# Altium schematic symbol library btretro_schlib.SchLib: 68 symbols (part 2 of 3)
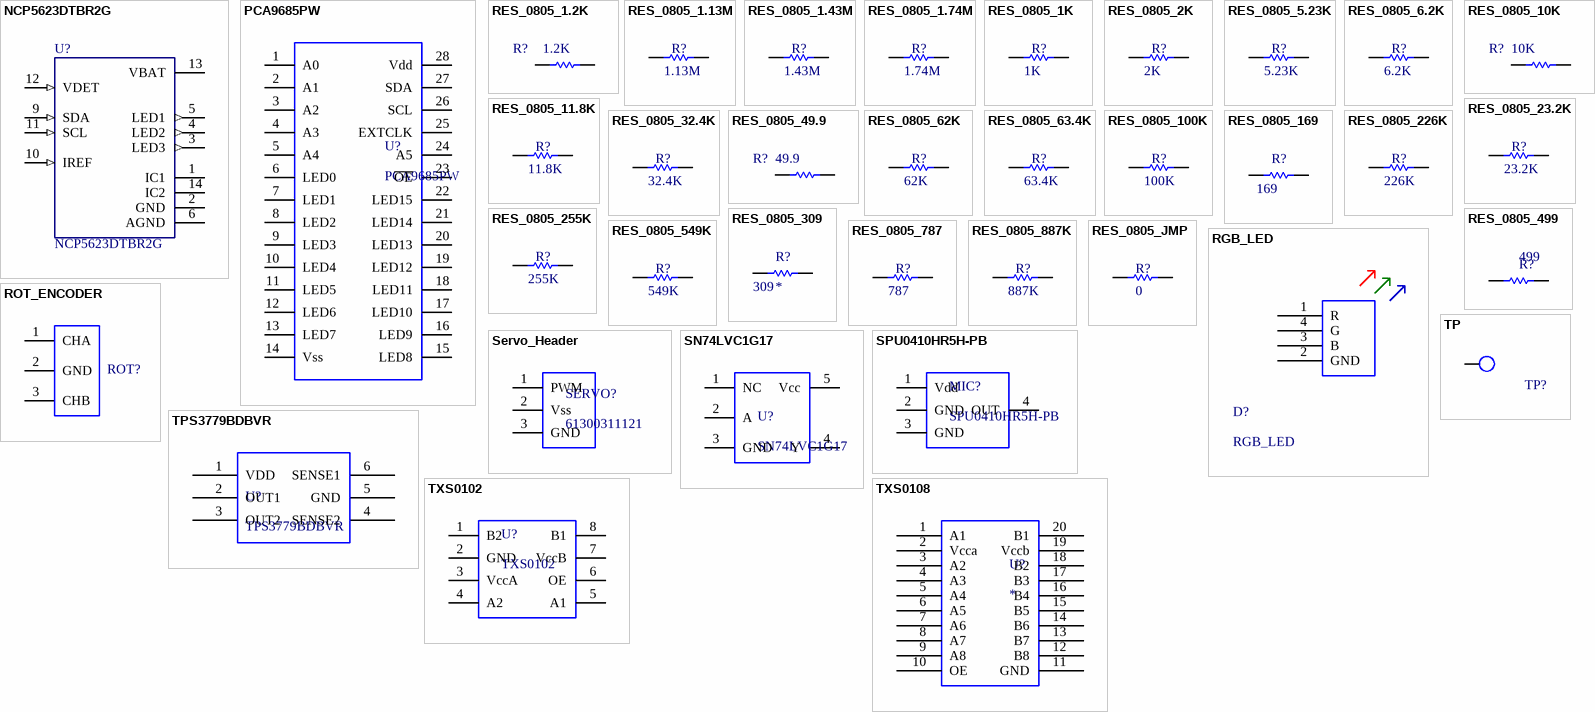
[diagram p2: symbols NCP5623DTBR2G to TXS0108]

## RES_0805_1.43M
designator R?, comment RES_1.43M  (value not drawn)
RES SMD 1.43M OHM 1% 1/8W 0805; Manufacturer: Yageo; Manufacturer Part Number: RC0805FR-071M43L; Voltage Rating: 150V; Resistance: 1.43MR; Power Rating: 125mW; Temperature Coefficient: 100ppm/°C; Supplier 1: Digi-Key; Supplier Part Number 1: 311-1.43MCRCT-ND; Stock 1: 27474; Pricing 1: 1=0.1, 10=0.023, 100=0.0095, 1000=0.0043, 2500=0.0037 (USD); Case/Package: 0805; Case Code (Metric): 2012; Case Code (Imperial): 0805; Contact Plating: Tin,Matte; Min Operating Temperature: -55°C; Max Operating Temperature: 155°C; Package Quantity: 1; Tolerance: 1%; Packaging: Tape and Reel; Composition: Thick Film; Number of Terminations: 2; Termination: SMD/SMT; Military Standard: Not; Max Power Dissipation: 125mW; Voltage Rating (DC): 150V; Length: 2mm; Height: 0.024inch; Width: 0.049inch; Depth: 1.25mm; Radiation Hardening: No; Lead Free: Lead Free; ComponentLink1URL: https://datasheet.ciiva.com/2554/pyu-r-int-thick-7-2554432.pdf; ComponentLink1Description: https://datasheet.ciiva.com/2554/pyu-r-int-thick-7-2554432.pdf; ComponentLink2URL: https://datasheet.ciiva.com/12575/rc0805-257173-12575317.pdf; ComponentLink2Description: https://datasheet.ciiva.com/12575/rc0805-257173-12575317.pdf; ComponentLink3URL: https://datasheet.ciiva.com/2554/pyu-r-int-thick-7-2554430.pdf; ComponentLink3Description: https://datasheet.ciiva.com/2554/pyu-r-int-thick-7-2554430.pdf; ComponentLink4URL: https://datasheet.ciiva.com/2554/pyu-r-int-thick-7-2554431.pdf; ComponentLink4Description: https://datasheet.ciiva.com/2554/pyu-r-int-thick-7-2554431.pdf
footprint RES0805
pins: 1, 2
text: 1.43M

## RES_0805_1.74M
designator R?  (value not drawn)
RES SMD 1.74M OHM 1% 1/8W 0805; Manufacturer: Yageo; Manufacturer Part Number: RC0805FR-071M74L; Resistance: 1.74MR; Power Rating: 125mW; Voltage Rating: 150V; Temperature Coefficient: 100ppm/°C; Supplier 1: Digi-Key; Supplier Part Number 1: 311-1.74MCRCT-ND; Stock 1: 24001; Pricing 1: 1=0.1, 10=0.023, 100=0.0095, 1000=0.0043, 2500=0.0037 (USD); Case/Package: 0805; Case Code (Imperial): 0805; Case Code (Metric): 2012; Contact Plating: Tin,Matte; Min Operating Temperature: -55°C; Max Operating Temperature: 155°C; Tolerance: 1%; Packaging: Tape and Reel; Package Quantity: 1; Termination: SMD/SMT; Composition: Thick Film; Number of Terminations: 2; Max Power Dissipation: 125mW; Voltage Rating (DC): 150V; Length: 0.079inch; Height: 0.024inch; Width: 1.25mm; Radiation Hardening: No; Lead Free: Lead Free; ComponentLink1URL: https://datasheet.ciiva.com/12575/rc0805-257173-12575526.pdf; ComponentLink1Description: https://datasheet.ciiva.com/12575/rc0805-257173-12575526.pdf; ComponentLink2URL: https://datasheet.ciiva.com/2459/pyu-r-int-thick-7-2459082.pdf; ComponentLink2Description: https://datasheet.ciiva.com/2459/pyu-r-int-thick-7-2459082.pdf; ComponentLink3URL: https://datasheet.ciiva.com/2459/pyu-r-int-thick-7-2459083.pdf; ComponentLink3Description: https://datasheet.ciiva.com/2459/pyu-r-int-thick-7-2459083.pdf; ComponentLink4URL: https://datasheet.ciiva.com/2459/pyu-r-int-thick-7-2459084.pdf; ComponentLink4Description: https://datasheet.ciiva.com/2459/pyu-r-int-thick-7-2459084.pdf
footprint RES0805
pins: 1, 2
text: 1.74M

## RES_0805_1K
designator R?  (value not drawn)
RES SMD 1K OHM 1% 1/8W 0805; Manufacturer: Yageo; Manufacturer Part Number: RC0805FR-071KL; Resistance: 1KR; Temperature Coefficient: 100ppm/°C; Voltage Rating (DC): 150V; Power Rating: 125mW; Supplier 1: Digi-Key; Supplier Part Number 1: 311-1.00KCRCT-ND; Stock 1: 6122451; Pricing 1: 1=0.1, 10=0.022, 100=0.0088, 1000=0.004, 2500=0.0034 (USD); Case/Package: 0805; Number of Pins: 2; Case Code (Metric): 2012; Case Code (Imperial): 0805; Min Operating Temperature: -55°C; Max Operating Temperature: 155°C; Tolerance: 1%; Packaging: Tape and Reel; Composition: Thick Film; Package Quantity: 1; Voltage Rating: 150V; Number of Terminations: 2; Termination: SMD/SMT; Military Standard: Not; Max Power Dissipation: 125mW; Length: 0.079inch; Height: 0.024inch; Width: 0.049inch; Depth: 1.25mm; REACH SVHC: Unknown; Lead Free: Lead Free; ComponentLink1URL: https://datasheet.ciiva.com/2456/pyu-r-int-thick-7-2456976.pdf; ComponentLink1Description: https://datasheet.ciiva.com/2456/pyu-r-int-thick-7-2456976.pdf; ComponentLink2URL: https://datasheet.ciiva.com/2456/pyu-r-int-thick-7-2456977.pdf; ComponentLink2Description: https://datasheet.ciiva.com/2456/pyu-r-int-thick-7-2456977.pdf; ComponentLink3URL: https://datasheet.ciiva.com/11819/0900766b8106beab-11819814.pdf; ComponentLink3Description: https://datasheet.ciiva.com/11819/0900766b8106beab-11819814.pdf; ComponentLink4URL: https://datasheet.ciiva.com/7941/1686128-7941719.pdf; ComponentLink4Description: https://datasheet.ciiva.com/7941/1686128-7941719.pdf; ComponentLink5URL: https://datasheet.ciiva.com/16850/rc0805-16850409.pdf; ComponentLink5Description: https://datasheet.ciiva.com/16850/rc0805-16850409.pdf; ComponentLink6URL: https://datasheet.ciiva.com/46385/444164-46385020.pdf; ComponentLink6Description: https://datasheet.ciiva.com/46385/444164-46385020.pdf; ComponentLink7URL: https://datasheet.ciiva.com/2456/pyu-r-int-thick-7-2456975.pdf; ComponentLink7Description: https://datasheet.ciiva.com/2456/pyu-r-int-thick-7-2456975.pdf
footprint RES0805
pins: 1, 2
text: 1K

## RES_0805_2K
designator R?  (value not drawn)
RES SMD 2K OHM 5% 1/8W 0805; Manufacturer: Yageo; Manufacturer Part Number: RC0805JR-072KL; Resistance: 2KR; Power Rating: 125mW; Voltage Rating: 150V; Temperature Coefficient: 100ppm/°C; Supplier 1: Digi-Key; Supplier Part Number 1: 311-2.0KARCT-ND; Stock 1: 297667; Pricing 1: 1=0.1, 10=0.016, 25=0.0116, 50=0.009, 100=0.0066, 250=0.005, 500=0.004, 1000=0.003 (USD); Case/Package: 0805; Number of Pins: 2; Case Code (Metric): 2012; Case Code (Imperial): 0805; Contact Plating: Tin,Lead,Matte; Min Operating Temperature: -55°C; Max Operating Temperature: 155°C; Tolerance: 5%; Packaging: Tape and Reel; Package Quantity: 1; Composition: Thick Film; Number of Terminations: 2; Termination: SMD/SMT; Military Standard: Not; Max Power Dissipation: 125mW; Voltage Rating (DC): 150V; Length: 2mm; Height: 0.024inch; Width: 0.049inch; Depth: 1.25mm; Radiation Hardening: No; REACH SVHC: No SVHC; Lead Free: Lead Free; ComponentLink1URL: https://datasheet.ciiva.com/46395/444164-46395141.pdf; ComponentLink1Description: https://datasheet.ciiva.com/46395/444164-46395141.pdf; ComponentLink2URL: https://datasheet.ciiva.com/2456/pyu-r-int-thick-7-2456104.pdf; ComponentLink2Description: https://datasheet.ciiva.com/2456/pyu-r-int-thick-7-2456104.pdf; ComponentLink3URL: https://datasheet.ciiva.com/2456/pyu-r-int-thick-7-2456105.pdf; ComponentLink3Description: https://datasheet.ciiva.com/2456/pyu-r-int-thick-7-2456105.pdf; ComponentLink4URL: https://datasheet.ciiva.com/2456/pyu-r-int-thick-7-2456106.pdf; ComponentLink4Description: https://datasheet.ciiva.com/2456/pyu-r-int-thick-7-2456106.pdf; ComponentLink5URL: https://datasheet.ciiva.com/12666/rc0805-12666941.pdf; ComponentLink5Description: https://datasheet.ciiva.com/12666/rc0805-12666941.pdf
footprint RES0805
pins: 1, 2
text: 2K

## RES_0805_5.23K
designator R?, comment RES_5.23K  (value not drawn)
Thick Film Resistors 5.23K OHM 1%; Manufacturer: Yageo; Manufacturer Part Number: RC0805FR-075K23L; Resistance: 5.23KR; Power Rating: 125mW; Voltage Rating: 150V; Temperature Coefficient: 100ppm/°C; Supplier 1: Digi-Key; Supplier Part Number 1: 311-5.23KCRCT-ND; Stock 1: 101854; Pricing 1: 1=0.1, 10=0.022, 100=0.0088, 1000=0.004, 2500=0.0034 (USD); Case/Package: 0805; Weight: 0.000194oz; Case Code (Imperial): 0805; Case Code (Metric): 2012; Contact Plating: Tin,Matte; Min Operating Temperature: -55°C; Max Operating Temperature: 155°C; Tolerance: 1%; Packaging: Tape and Reel; Termination: SMD/SMT; Composition: Thick Film; Military Standard: Not; Voltage Rating (DC): 150V; Length: 2mm; Height: 0.5mm; Width: 1.25mm; Depth: 1.25mm; Radiation Hardening: No; Lead Free: Lead Free; ComponentLink1URL: https://datasheet.ciiva.com/12577/rc0805-12577289.pdf; ComponentLink1Description: https://datasheet.ciiva.com/12577/rc0805-12577289.pdf
footprint RES0805
pins: 1, 2
text: 5.23K

## RES_0805_6.2K
designator R?, comment RES_6.2K  (value not drawn)
Yageo RC0805 Series Thick Film Surface Mount Resistor 0805 Case 6.2k 1% 0.125W 100ppm/C; Manufacturer Part Number: RC0805FR-076K2L; Power Rating: 125mW; Resistance: 6.2KR; Temperature Coefficient: 100ppm/°C; Voltage Rating (DC): 150V; Supplier 1: Digi-Key; Supplier Part Number 1: 311-6.20KCRCT-ND; Manufacturer: Yageo; Stock 1: 195580; Pricing 1: 1=0.1, 10=0.022, 100=0.0088, 1000=0.004, 2500=0.0034 (USD); Case/Package: 0805; Case Code (Imperial): 0805; Case Code (Metric): 2012; Min Operating Temperature: -55°C; Max Operating Temperature: 155°C; Tolerance: 1%; Packaging: Tape and Reel; Package Quantity: 5000; Voltage Rating: 150V; Termination: SMD/SMT; Military Standard: Not; Composition: Thick Film; Length: 2mm; Height: 0.5mm; Width: 1.25mm; Depth: 1.25mm; Lead Free: Lead Free; ComponentLink1URL: https://datasheet.ciiva.com/11809/0900766b8106beab-11809424.pdf; ComponentLink1Description: https://datasheet.ciiva.com/11809/0900766b8106beab-11809424.pdf; ComponentLink2URL: https://datasheet.ciiva.com/16792/rc0805-16792360.pdf; ComponentLink2Description: https://datasheet.ciiva.com/16792/rc0805-16792360.pdf
footprint RES0805
pins: 1, 2
text: 6.2K

## RES_0805_10K
designator R?  Resistance: 10K  (hidden comment: *)
RES, THICK FILM, 10K, 5%, 0.125W, 0805; Manufacturer: Yageo; Manufacturer Part Number: RC0805JR-0710KL; Power Rating: 125mW; Voltage Rating: 150V; Temperature Coefficient: 100ppm/°C; Supplier 1: Digi-Key; Stock 1: 1285290; Pricing 1: 1=0.1, 10=0.019, 100=0.0076, 1000=0.0034, 2500=0.003 (USD); Case/Package: 0805; Case Code (Imperial): 0805; Case Code (Metric): 2012; Contact Plating: Tin,Matte; Min Operating Temperature: -55°C; Max Operating Temperature: 155°C; Tolerance: 5%; Packaging: Tape and Reel; Termination: SMD/SMT; Composition: Thick Film; Military Standard: Not; Length: 2mm; Height: 0.5mm; Depth: 1.25mm; Width: 1.25mm; Radiation Hardening: No; REACH SVHC: Unknown; Lead Free: Lead Free; ComponentLink1URL: https://datasheet.ciiva.com/7983/444164-7983765.pdf; ComponentLink1Description: https://datasheet.ciiva.com/7983/444164-7983765.pdf; ComponentLink2URL: https://datasheet.ciiva.com/7941/444164-7941870.pdf; ComponentLink2Description: https://datasheet.ciiva.com/7941/444164-7941870.pdf; ComponentLink3URL: https://datasheet.ciiva.com/7941/444164-7941871.pdf; ComponentLink3Description: https://datasheet.ciiva.com/7941/444164-7941871.pdf; Supplier Part Number 1: 311-10KARCT-ND
footprint RES0805
pins: 1, 2

## RES_0805_11.8K
designator R?  (value not drawn)
RES SMD 11.8K OHM 1% 1/8W 0805; Manufacturer: Yageo; Manufacturer Part Number: RC0805FR-0711K8L; Resistance: 11.8KR; Temperature Coefficient: 100ppm/°C; Voltage Rating (DC): 150V; Power Rating: 125mW; Supplier 1: Digi-Key; Supplier Part Number 1: 311-11.8KCRCT-ND; Stock 1: 69614; Pricing 1: 1=0.1, 10=0.022, 100=0.0088, 1000=0.004, 2500=0.0034 (USD); Case/Package: 0805; Contact Plating: Tin,Lead,Matte; Case Code (Metric): 2012; Case Code (Imperial): 0805; Min Operating Temperature: -55°C; Max Operating Temperature: 155°C; Tolerance: 1%; Packaging: Tape and Reel; Composition: Thick Film; Voltage Rating: 150V; Termination: SMD/SMT; Military Standard: Not; Package Quantity: 1; Number of Terminations: 2; Max Power Dissipation: 125mW; Length: 2mm; Height: 0.024inch; Width: 0.049inch; Depth: 1.25mm; Radiation Hardening: No; Lead Free: Lead Free; ComponentLink1URL: https://datasheet.ciiva.com/15189/getdatasheetpartid-498796-15189893.pdf; ComponentLink1Description: https://datasheet.ciiva.com/15189/getdatasheetpartid-498796-15189893.pdf; ComponentLink2URL: https://datasheet.ciiva.com/2509/pyu-r-int-thick-7-2509453.pdf; ComponentLink2Description: https://datasheet.ciiva.com/2509/pyu-r-int-thick-7-2509453.pdf; ComponentLink3URL: https://datasheet.ciiva.com/2509/pyu-r-int-thick-7-2509454.pdf; ComponentLink3Description: https://datasheet.ciiva.com/2509/pyu-r-int-thick-7-2509454.pdf; ComponentLink4URL: https://datasheet.ciiva.com/2509/pyu-r-int-thick-7-2509455.pdf; ComponentLink4Description: https://datasheet.ciiva.com/2509/pyu-r-int-thick-7-2509455.pdf
footprint RES0805
pins: 1, 2
text: 11.8K

## RES_0805_23.2K
designator R?  (value not drawn)
RESISTOR, THICK FILM, 23.2KOHM, 125mW, ± 1%; Manufacturer: Panasonic ECG; Manufacturer Part Number: ERJ-6ENF2322V; Resistance: 23.2KR; Voltage Rating: 150V; Temperature Coefficient: 100ppm/°C; Supplier 1: Digi-Key; Supplier Part Number 1: P23.2KCCT-ND; Stock 1: 76814; Pricing 1: 1=0.1, 10=0.041, 100=0.0167, 1000=0.0075, 2500=0.0065 (USD); Mount: Surface Mount; Case/Package: 0805; Case Code (Metric): 2012; Case Code (Imperial): 0805; Contact Plating: Tin; Min Operating Temperature: -55°C; Max Operating Temperature: 155°C; Tolerance: 1%; Power Rating: 125mW; Packaging: Tape and Reel; Package Quantity: 1; Composition: Thick Film; Number of Terminations: 2; Termination: Solder; Military Standard: Not; Max Power Dissipation: 125mW; Voltage Rating (DC): 150V; Length: 2mm; Height: 0.6mm; Width: 0.049inch; Depth: 1.25mm; REACH SVHC: Unknown; Lead Free: Lead Free; ComponentLink1URL: https://datasheet.ciiva.com/16766/70260748-16766008.pdf; ComponentLink1Description: https://datasheet.ciiva.com/16766/70260748-16766008.pdf; ComponentLink2URL: https://datasheet.ciiva.com/16770/70260748-16770232.pdf; ComponentLink2Description: https://datasheet.ciiva.com/16770/70260748-16770232.pdf; ComponentLink3URL: https://datasheet.ciiva.com/24026/aoa0000ce2-24026235.pdf; ComponentLink3Description: https://datasheet.ciiva.com/24026/aoa0000ce2-24026235.pdf; ComponentLink4URL: https://datasheet.ciiva.com/15829/aoa0000ce2-15829836.pdf; ComponentLink4Description: https://datasheet.ciiva.com/15829/aoa0000ce2-15829836.pdf; ComponentLink5URL: https://datasheet.ciiva.com/30086/aoa0000ce2-30086557.pdf; ComponentLink5Description: https://datasheet.ciiva.com/30086/aoa0000ce2-30086557.pdf; ComponentLink6URL: https://datasheet.ciiva.com/28548/1694929-28548334.pdf; ComponentLink6Description: https://datasheet.ciiva.com/28548/1694929-28548334.pdf; ComponentLink7URL: https://datasheet.ciiva.com/7870/aoa0000ce2-7870831.pdf; ComponentLink7Description: https://datasheet.ciiva.com/7870/aoa0000ce2-7870831.pdf
footprint RES0805
pins: 1, 2
text: 23.2K

## RES_0805_32.4K
designator R?  (value not drawn)
Res Thick Film 0805 32.4K Ohm 1% 0.125W(1/8W) ±100ppm/C Molded SMD Automotive Punched T/R; Manufacturer: Panasonic ECG; Manufacturer Part Number: ERJ-6ENF3242V; Voltage Rating: 150V; Resistance: 32.4KR; Power Rating: 125mW; Temperature Coefficient: 100ppm/°C; Supplier 1: Digi-Key; Supplier Part Number 1: P32.4KCCT-ND; Stock 1: 78637; Pricing 1: 1=0.1, 10=0.041, 100=0.0167, 1000=0.0075, 2500=0.0065 (USD); Mount: Surface Mount; Case/Package: 0805; Case Code (Metric): 2012; Case Code (Imperial): 0805; Contact Plating: Tin; Min Operating Temperature: -55°C; Max Operating Temperature: 155°C; Tolerance: 1%; Packaging: Tape and Reel; Package Quantity: 1; Composition: Thick Film; Number of Terminations: 2; Max Power Dissipation: 125mW; Voltage Rating (DC): 150V; Termination: SMD/SMT; Military Standard: Not; Length: 2mm; Height: 0.6mm; Width: 0.049inch; Depth: 1.25mm; Radiation Hardening: No; REACH SVHC: No SVHC; Lead Free: Lead Free; ComponentLink1URL: https://datasheet.ciiva.com/16775/70260748-16775558.pdf; ComponentLink1Description: https://datasheet.ciiva.com/16775/70260748-16775558.pdf; ComponentLink2URL: https://datasheet.ciiva.com/15158/getdatasheetpartid-247611-15158919.pdf; ComponentLink2Description: https://datasheet.ciiva.com/15158/getdatasheetpartid-247611-15158919.pdf; ComponentLink3URL: https://datasheet.ciiva.com/7870/aoa0000ce2-7870840.pdf; ComponentLink3Description: https://datasheet.ciiva.com/7870/aoa0000ce2-7870840.pdf; ComponentLink4URL: https://datasheet.ciiva.com/16761/70260748-16761144.pdf; ComponentLink4Description: https://datasheet.ciiva.com/16761/70260748-16761144.pdf; ComponentLink5URL: https://datasheet.ciiva.com/28545/1694929-28545435.pdf; ComponentLink5Description: https://datasheet.ciiva.com/28545/1694929-28545435.pdf; ComponentLink6URL: https://datasheet.ciiva.com/24069/aoa0000ce2-24069836.pdf; ComponentLink6Description: https://datasheet.ciiva.com/24069/aoa0000ce2-24069836.pdf; ComponentLink7URL: https://datasheet.ciiva.com/30163/aoa0000ce2-30163404.pdf; ComponentLink7Description: https://datasheet.ciiva.com/30163/aoa0000ce2-30163404.pdf
footprint RES0805
pins: 1, 2
text: 32.4K

## RES_0805_49.9
designator R?  Resistance: 49.9  (hidden comment: *)
RES SMD 49.9 OHM 1% 1/8W 0805; Manufacturer: Yageo; Manufacturer Part Number: RC0805FR-0749R9L; Power Rating: 125mW; Voltage Rating: 150V; Temperature Coefficient: 100ppm/°C; Supplier 1: Digi-Key; Stock 1: 531225; Pricing 1: 1=0.1, 10=0.022, 100=0.0088, 1000=0.004, 2500=0.0034 (USD); Mount: Surface Mount; Case/Package: 0805; Case Code (Metric): 2012; Case Code (Imperial): 0805; Min Operating Temperature: -55°C; Max Operating Temperature: 155°C; Package Quantity: 1; Tolerance: 1%; Packaging: Tape and Reel; Composition: Thick Film; Number of Terminations: 2; Termination: SMD/SMT; Military Standard: Not; Max Power Dissipation: 125mW; Voltage Rating (DC): 150V; Length: 2mm; Height: 0.024inch; Width: 0.049inch; Depth: 1.25mm; Lead Free: Lead Free; ComponentLink1URL: https://datasheet.ciiva.com/11808/0900766b8106beab-11808260.pdf; ComponentLink1Description: https://datasheet.ciiva.com/11808/0900766b8106beab-11808260.pdf; ComponentLink2URL: https://datasheet.ciiva.com/12667/rc0805-12667333.pdf; ComponentLink2Description: https://datasheet.ciiva.com/12667/rc0805-12667333.pdf; ComponentLink3URL: https://datasheet.ciiva.com/17041/rc0805-17041420.pdf; ComponentLink3Description: https://datasheet.ciiva.com/17041/rc0805-17041420.pdf; Supplier Part Number 1: 311-49.9CRCT-ND
footprint RES0805
pins: 1, 2

## RES_0805_62K
designator R?  (value not drawn)
RES SMD 62K OHM 1% 1/8W 0805; Manufacturer: Yageo; Manufacturer Part Number: RC0805FR-0762KL; Resistance: 62KR; Power Rating: 125mW; Temperature Coefficient: 100ppm/°C; Voltage Rating (DC): 150V; Supplier 1: Digi-Key; Supplier Part Number 1: 311-62.0KCRCT-ND; Stock 1: 23886; Pricing 1: 1=0.1, 10=0.022, 100=0.0088, 1000=0.004, 2500=0.0034 (USD); Case/Package: 0805; Case Code (Metric): 2012; Case Code (Imperial): 0805; Min Operating Temperature: -55°C; Max Operating Temperature: 155°C; Tolerance: 1%; Packaging: Tape and Reel; Package Quantity: 1; Voltage Rating: 150V; Composition: Thick Film; Termination: SMD/SMT; Military Standard: Not; Number of Terminations: 2; Max Power Dissipation: 125mW; Length: 2mm; Height: 0.024inch; Width: 0.049inch; Depth: 1.25mm; Lead Free: Lead Free; ComponentLink1URL: https://datasheet.ciiva.com/2458/pyu-r-int-thick-7-2458016.pdf; ComponentLink1Description: https://datasheet.ciiva.com/2458/pyu-r-int-thick-7-2458016.pdf; ComponentLink2URL: https://datasheet.ciiva.com/2458/pyu-r-int-thick-7-2458017.pdf; ComponentLink2Description: https://datasheet.ciiva.com/2458/pyu-r-int-thick-7-2458017.pdf; ComponentLink3URL: https://datasheet.ciiva.com/2458/pyu-r-int-thick-7-2458018.pdf; ComponentLink3Description: https://datasheet.ciiva.com/2458/pyu-r-int-thick-7-2458018.pdf; ComponentLink4URL: https://datasheet.ciiva.com/11808/0900766b8106beab-11808612.pdf; ComponentLink4Description: https://datasheet.ciiva.com/11808/0900766b8106beab-11808612.pdf; ComponentLink5URL: https://datasheet.ciiva.com/17045/rc0805-17045254.pdf; ComponentLink5Description: https://datasheet.ciiva.com/17045/rc0805-17045254.pdf
footprint RES0805
pins: 1, 2
text: 62K

## RES_0805_63.4K
designator R?, comment RES_63.4K  (value not drawn)
RES SMD 63.4K OHM 1% 1/8W 0805; Manufacturer: Yageo; Manufacturer Part Number: RC0805FR-0763K4L; Resistance: 63.4KR; Power Rating: 125mW; Voltage Rating: 150V; Temperature Coefficient: 100ppm/°C; Supplier 1: Digi-Key; Supplier Part Number 1: 311-63.4KCRCT-ND; Stock 1: 27; Pricing 1: 1=0.1, 10=0.021, 25=0.0152, 100=0.0084, 250=0.0064, 500=0.0051, 1000=0.0038, 2500=0.0033 (USD); Case/Package: 0805; Case Code (Metric): 2012; Case Code (Imperial): 0805; Contact Plating: Tin,Matte; Min Operating Temperature: -55°C; Max Operating Temperature: 155°C; Tolerance: 1%; Packaging: Tape and Reel; Composition: Thick Film; Termination: SMD/SMT; Military Standard: Not; Voltage Rating (DC): 150V; Package Quantity: 1; Number of Terminations: 2; Max Power Dissipation: 125mW; Length: 2mm; Height: 0.024inch; Width: 0.049inch; Depth: 1.25mm; Radiation Hardening: No; Lead Free: Lead Free; ComponentLink1URL: https://datasheet.ciiva.com/2519/pyu-r-int-thick-7-2519699.pdf; ComponentLink1Description: https://datasheet.ciiva.com/2519/pyu-r-int-thick-7-2519699.pdf; ComponentLink2URL: https://datasheet.ciiva.com/2519/pyu-r-int-thick-7-2519700.pdf; ComponentLink2Description: https://datasheet.ciiva.com/2519/pyu-r-int-thick-7-2519700.pdf; ComponentLink3URL: https://datasheet.ciiva.com/2519/pyu-r-int-thick-7-2519701.pdf; ComponentLink3Description: https://datasheet.ciiva.com/2519/pyu-r-int-thick-7-2519701.pdf
footprint RES0805
pins: 1, 2
text: 63.4K

## RES_0805_100K
designator R?  (value not drawn)
Res Thick Film 0805 100K Ohm 1% 0.125W(1/8W) ±100ppm/C Molded SMD Automotive Punched T/R; Manufacturer: Panasonic ECG; Manufacturer Part Number: ERJ-6ENF1003V; Resistance: 100KR; Power Rating: 125mW; Temperature Coefficient: 100ppm/°C; Voltage Rating (DC): 150V; Supplier 1: Digi-Key; Supplier Part Number 1: P100KCCT-ND; Stock 1: 219769; Pricing 1: 1=0.1, 10=0.041, 100=0.0167, 1000=0.0075, 2500=0.0065 (USD); Mount: Surface Mount; Case/Package: 0805; Number of Pins: 2; Case Code (Metric): 2012; Case Code (Imperial): 0805; Contact Plating: Tin; Min Operating Temperature: -55°C; Max Operating Temperature: 155°C; Tolerance: 1%; Packaging: Tape and Reel; Package Quantity: 1; Voltage Rating: 150V; Composition: Thick Film; Number of Terminations: 2; Military Standard: Not; Termination: SMD/SMT; Max Power Dissipation: 125mW; Length: 2mm; Height: 0.6mm; Width: 0.049inch; Depth: 1.25mm; Radiation Hardening: No; REACH SVHC: No SVHC; Lead Free: Lead Free; ComponentLink1URL: https://datasheet.ciiva.com/11821/0900766b80f80784-11821507.pdf; ComponentLink1Description: https://datasheet.ciiva.com/11821/0900766b80f80784-11821507.pdf; ComponentLink2URL: https://datasheet.ciiva.com/22723/426256-22723909.pdf; ComponentLink2Description: https://datasheet.ciiva.com/22723/426256-22723909.pdf; ComponentLink3URL: https://datasheet.ciiva.com/46419/1678782-46419877.pdf; ComponentLink3Description: https://datasheet.ciiva.com/46419/1678782-46419877.pdf; ComponentLink4URL: https://datasheet.ciiva.com/27055/1988989-27055734.pdf; ComponentLink4Description: https://datasheet.ciiva.com/27055/1988989-27055734.pdf; ComponentLink5URL: https://datasheet.ciiva.com/16449/aoa0000ce2-16449480.pdf; ComponentLink5Description: https://datasheet.ciiva.com/16449/aoa0000ce2-16449480.pdf; ComponentLink6URL: https://datasheet.ciiva.com/17208/aoa0000ce2-17208153.pdf; ComponentLink6Description: https://datasheet.ciiva.com/17208/aoa0000ce2-17208153.pdf; ComponentLink7URL: https://datasheet.ciiva.com/22667/1678782-22667897.pdf; ComponentLink7Description: https://datasheet.ciiva.com/22667/1678782-22667897.pdf; ComponentLink8URL: https://datasheet.ciiva.com/24023/aoa0000ce2-24023497.pdf; ComponentLink8Description: https://datasheet.ciiva.com/24023/aoa0000ce2-24023497.pdf; ComponentLink9URL: https://datasheet.ciiva.com/7830/426256-7830746.pdf; ComponentLink9Description: https://datasheet.ciiva.com/7830/426256-7830746.pdf; ComponentLink10URL: https://datasheet.ciiva.com/30257/aoa0000ce2-30257690.pdf; ComponentLink10Description: https://datasheet.ciiva.com/30257/aoa0000ce2-30257690.pdf; ComponentLink11URL: https://datasheet.ciiva.com/7830/426256-7830988.pdf; ComponentLink11Description: https://datasheet.ciiva.com/7830/426256-7830988.pdf; ComponentLink12URL: https://datasheet.ciiva.com/16776/70260748-16776892.pdf; ComponentLink12Description: https://datasheet.ciiva.com/16776/70260748-16776892.pdf; ComponentLink13URL: https://datasheet.ciiva.com/16788/70260748-16788734.pdf; ComponentLink13Description: https://datasheet.ciiva.com/16788/70260748-16788734.pdf; ComponentLink14URL: https://datasheet.ciiva.com/48531/aoa0000ce2-48531486.pdf; ComponentLink14Description: https://datasheet.ciiva.com/48531/aoa0000ce2-48531486.pdf
footprint RES0805
pins: 1, 2
text: 100K

## RES_0805_169
designator R?, comment 169 Ohm  (value not drawn)
RES SMD 169 OHM 1% 1/8W 0805; Manufacturer: Yageo; Manufacturer Part Number: RC0805FR-07169RL; Resistance: 169R; Temperature Coefficient: 100ppm/°C; Power Rating: 125mW; Voltage Rating: 150V; Supplier 1: Digi-Key; Stock 1: 54311; Pricing 1: 1=0.1, 10=0.022, 100=0.0088, 1000=0.004, 2500=0.0034 (USD); Case/Package: 0805; Contact Plating: Tin,Matte; Case Code (Metric): 2012; Case Code (Imperial): 0805; Min Operating Temperature: -55°C; Max Operating Temperature: 155°C; Tolerance: 1%; Composition: Thick Film; Packaging: Tape and Reel; Package Quantity: 1; Number of Terminations: 2; Termination: SMD/SMT; Military Standard: Not; Max Power Dissipation: 125mW; Voltage Rating (DC): 150V; Length: 2mm; Height: 0.024inch; Width: 0.049inch; Depth: 1.25mm; Radiation Hardening: No; Lead Free: Lead Free; ComponentLink1URL: https://datasheet.ciiva.com/17054/rc0805-17054266.pdf; ComponentLink1Description: https://datasheet.ciiva.com/17054/rc0805-17054266.pdf; ComponentLink2URL: https://datasheet.ciiva.com/2509/pyu-r-int-thick-7-2509468.pdf; ComponentLink2Description: https://datasheet.ciiva.com/2509/pyu-r-int-thick-7-2509468.pdf; ComponentLink3URL: https://datasheet.ciiva.com/2509/pyu-r-int-thick-7-2509469.pdf; ComponentLink3Description: https://datasheet.ciiva.com/2509/pyu-r-int-thick-7-2509469.pdf; ComponentLink4URL: https://datasheet.ciiva.com/2509/pyu-r-int-thick-7-2509470.pdf; ComponentLink4Description: https://datasheet.ciiva.com/2509/pyu-r-int-thick-7-2509470.pdf; Supplier Part Number 1: 311-169CRCT-ND
footprint RES0805
pins: 1, 2
text: 169

## RES_0805_226K
designator R?  (value not drawn)
Res Thick Film 0805 226K Ohm 1% 1/8W ±100ppm/C Molded SMD Punched Carrier T/R; Manufacturer: Panasonic ECG; Manufacturer Part Number: ERJ-6ENF2263V; Resistance: 226KR; Power Rating: 125mW; Voltage Rating: 150V; Temperature Coefficient: 100ppm/°C; Supplier 1: Digi-Key; Supplier Part Number 1: P226KCCT-ND; Stock 1: 16885; Pricing 1: 1=0.1, 10=0.041, 100=0.0167, 1000=0.0075, 2500=0.0065 (USD); Mount: Surface Mount; Case/Package: 0805; Case Code (Metric): 2012; Case Code (Imperial): 0805; Contact Plating: Tin; Min Operating Temperature: -55°C; Max Operating Temperature: 155°C; Tolerance: 1%; Packaging: Tape and Reel; Package Quantity: 5000; Composition: Thick Film; Number of Terminations: 2; Military Standard: Not; Max Power Dissipation: 125mW; Voltage Rating (DC): 150V; Length: 2mm; Height: 0.028inch; Width: 0.049inch; Depth: 1.25mm; REACH SVHC: No SVHC; Lead Free: Lead Free; ComponentLink1URL: https://datasheet.ciiva.com/22673/1678782-22673814.pdf; ComponentLink1Description: https://datasheet.ciiva.com/22673/1678782-22673814.pdf; ComponentLink2URL: https://datasheet.ciiva.com/30142/aoa0000ce2-30142390.pdf; ComponentLink2Description: https://datasheet.ciiva.com/30142/aoa0000ce2-30142390.pdf; ComponentLink3URL: https://datasheet.ciiva.com/22743/1678782-22743915.pdf; ComponentLink3Description: https://datasheet.ciiva.com/22743/1678782-22743915.pdf; ComponentLink4URL: https://datasheet.ciiva.com/22722/1678782-22722140.pdf; ComponentLink4Description: https://datasheet.ciiva.com/22722/1678782-22722140.pdf; ComponentLink5URL: https://datasheet.ciiva.com/46375/1678782-46375549.pdf; ComponentLink5Description: https://datasheet.ciiva.com/46375/1678782-46375549.pdf; ComponentLink6URL: https://datasheet.ciiva.com/46375/1678782-46375550.pdf; ComponentLink6Description: https://datasheet.ciiva.com/46375/1678782-46375550.pdf; ComponentLink7URL: https://datasheet.ciiva.com/9184/aoa0000ce2-9184239.pdf; ComponentLink7Description: https://datasheet.ciiva.com/9184/aoa0000ce2-9184239.pdf
footprint RES0805
pins: 1, 2
text: 226K

## RES_0805_255K
designator R?  (value not drawn)
RES SMD 255K OHM 1% 1/8W 0805; Manufacturer: Yageo; Manufacturer Part Number: RC0805FR-07255KL; Power Rating: 125mW; Resistance: 255KR; Voltage Rating: 150V; Temperature Coefficient: 100ppm/°C; Supplier 1: Digi-Key; Supplier Part Number 1: 311-255KCRCT-ND; Stock 1: 81508; Pricing 1: 1=0.1, 10=0.022, 100=0.0088, 1000=0.004, 2500=0.0034 (USD); Case/Package: 0805; Case Code (Imperial): 0805; Case Code (Metric): 2012; Min Operating Temperature: -55°C; Max Operating Temperature: 155°C; Packaging: Tape and Reel; Tolerance: 1%; Package Quantity: 1; Termination: SMD/SMT; Composition: Thick Film; Number of Terminations: 2; Military Standard: Not; Max Power Dissipation: 125mW; Voltage Rating (DC): 150V; Length: 2mm; Height: 0.024inch; Width: 1.25mm; Depth: 1.25mm; Lead Free: Lead Free; ComponentLink1URL: https://datasheet.ciiva.com/12560/rc0805-257173-12560696.pdf; ComponentLink1Description: https://datasheet.ciiva.com/12560/rc0805-257173-12560696.pdf; ComponentLink2URL: https://datasheet.ciiva.com/2457/pyu-r-int-thick-7-2457386.pdf; ComponentLink2Description: https://datasheet.ciiva.com/2457/pyu-r-int-thick-7-2457386.pdf; ComponentLink3URL: https://datasheet.ciiva.com/2457/pyu-r-int-thick-7-2457387.pdf; ComponentLink3Description: https://datasheet.ciiva.com/2457/pyu-r-int-thick-7-2457387.pdf; ComponentLink4URL: https://datasheet.ciiva.com/2457/pyu-r-int-thick-7-2457388.pdf; ComponentLink4Description: https://datasheet.ciiva.com/2457/pyu-r-int-thick-7-2457388.pdf; ComponentLink5URL: https://datasheet.ciiva.com/17419/rc0805-17419887.pdf; ComponentLink5Description: https://datasheet.ciiva.com/17419/rc0805-17419887.pdf
footprint RES0805
pins: 1, 2
text: 255K

## RES_0805_309
designator R?
RES SMD 309 OHM 1% 1/8W 0805; Manufacturer: Yageo; Manufacturer Part Number: RC0805FR-07309RL; Resistance: 309R; Temperature Coefficient: 100ppm/°C; Power Rating: 125mW; Voltage Rating: 150V; Supplier 1: Digi-Key; Stock 1: 22039; Pricing 1: 1=0.1, 10=0.022, 100=0.0088, 1000=0.004, 2500=0.0034 (USD); Case/Package: 0805; Contact Plating: Tin,Lead,Matte; Case Code (Imperial): 0805; Case Code (Metric): 2012; Min Operating Temperature: -55°C; Max Operating Temperature: 155°C; Tolerance: 1%; Composition: Thick Film; Packaging: Tape and Reel; Package Quantity: 1; Termination: SMD/SMT; Number of Terminations: 2; Military Standard: Not; Max Power Dissipation: 125mW; Voltage Rating (DC): 150V; Length: 2mm; Height: 0.024inch; Width: 1.25mm; Depth: 1.25mm; Radiation Hardening: No; Lead Free: Lead Free; ComponentLink1URL: https://datasheet.ciiva.com/2457/pyu-r-int-thick-7-2457593.pdf; ComponentLink1Description: https://datasheet.ciiva.com/2457/pyu-r-int-thick-7-2457593.pdf; ComponentLink2URL: https://datasheet.ciiva.com/2457/pyu-r-int-thick-7-2457594.pdf; ComponentLink2Description: https://datasheet.ciiva.com/2457/pyu-r-int-thick-7-2457594.pdf; ComponentLink3URL: https://datasheet.ciiva.com/2457/pyu-r-int-thick-7-2457595.pdf; ComponentLink3Description: https://datasheet.ciiva.com/2457/pyu-r-int-thick-7-2457595.pdf; Supplier Part Number 1: 311-309CRCT-ND
footprint RES0805
pins: 1, 2
text: 309

## RES_0805_499
designator R?  Resistance: 499  (hidden comment: *)
Res Thick Film 0805 499 Ohm 1% 0.125W(1/8W) ±100ppm/C Molded SMD Automotive T/R; Manufacturer: Stackpole Electronics; Manufacturer Part Number: RMCF0805FT499R; Power Rating: 125mW; Temperature Coefficient: 100ppm/°C; Supplier 1: Digi-Key; Stock 1: 258760; Pricing 1: 1=0.1, 10=0.023, 100=0.0095, 1000=0.0043, 2500=0.0037 (USD); Mount: Surface Mount; Case/Package: 0805; Case Code (Metric): 2012; Case Code (Imperial): 0805; Contact Plating: Tin,Matte; Min Operating Temperature: -55°C; Max Operating Temperature: 155°C; Tolerance: 1%; Packaging: Tape and Reel; Composition: Thick Film; Number of Terminations: 2; Military Standard: Not; Max Power Dissipation: 125mW; Length: 2mm; Height: 0.026inch; Width: 0.049inch; Depth: 1.25mm; Radiation Hardening: No; Lead Free: Lead Free; ComponentLink1URL: https://www.verical.com/server-webapp/html/getDatasheet?partID=363156; ComponentLink1Description: https://www.verical.com/server-webapp/html/getDatasheet?partID=363156; ComponentLink2URL: http://components.arrow.com/part/dataview/44988387S7171819N1174; ComponentLink2Description: http://components.arrow.com/part/dataview/44988387S7171819N1174; ComponentLink3URL: https://www.seielect.com/catalog/SEI-RMCF_RMCP.pdf; ComponentLink3Description: https://www.seielect.com/catalog/SEI-RMCF_RMCP.pdf; ComponentLink4URL: http://www.seielect.com/Catalog/SEI-RMC.pdf; ComponentLink4Description: http://www.seielect.com/Catalog/SEI-RMC.pdf; Supplier Part Number 1: RMCF0805FT499RCT-ND
footprint RES0805
pins: 1, 2

## RES_0805_549K
designator R?, comment RES_549K  (value not drawn)
RES SMD 549K OHM 1% 1/8W 0805; Manufacturer: Vishay; Manufacturer Part Number: CRCW0805549KFKEA; Resistance: 549KR; Power Rating: 125mW; Voltage Rating: 150V; Temperature Coefficient: 100ppm/°C; Supplier 1: Digi-Key; Supplier Part Number 1: 541-549KCCT-ND; Stock 1: 25548; Pricing 1: 1=0.1, 10=0.046, 100=0.0187, 1000=0.0084, 2500=0.0073 (USD); Case/Package: 0805; Number of Pins: 2; Weight: 0.000194oz; Case Code (Imperial): 0805; Case Code (Metric): 2012; Contact Plating: Tin; Min Operating Temperature: -55°C; Max Operating Temperature: 155°C; Tolerance: 1%; Packaging: Tape and Reel; Package Quantity: 10; Composition: Thick Film; Number of Terminations: 2; Military Standard: Not; Max Power Dissipation: 125mW; Voltage Rating (DC): 150V; Length: 2mm; Height: 0.02inch; Width: 1.25mm; Depth: 1.25mm; Radiation Hardening: No; REACH SVHC: Unknown; Lead Free: Lead Free; ComponentLink1URL: https://datasheet.ciiva.com/7670/1697337-7670905.pdf; ComponentLink1Description: https://datasheet.ciiva.com/7670/1697337-7670905.pdf; ComponentLink2URL: https://datasheet.ciiva.com/7670/1697337-7670906.pdf; ComponentLink2Description: https://datasheet.ciiva.com/7670/1697337-7670906.pdf; ComponentLink3URL: https://datasheet.ciiva.com/8929/dcrcwe3-8929562.pdf; ComponentLink3Description: https://datasheet.ciiva.com/8929/dcrcwe3-8929562.pdf; ComponentLink4URL: https://datasheet.ciiva.com/2467/dcrcwe3-2467947.pdf; ComponentLink4Description: https://datasheet.ciiva.com/2467/dcrcwe3-2467947.pdf; ComponentLink5URL: https://datasheet.ciiva.com/2467/dcrcwe3-2467948.pdf; ComponentLink5Description: https://datasheet.ciiva.com/2467/dcrcwe3-2467948.pdf; ComponentLink6URL: https://datasheet.ciiva.com/2467/dcrcwe3-2467949.pdf; ComponentLink6Description: https://datasheet.ciiva.com/2467/dcrcwe3-2467949.pdf; ComponentLink7URL: https://datasheet.ciiva.com/7726/66915-7726014.pdf; ComponentLink7Description: https://datasheet.ciiva.com/7726/66915-7726014.pdf; ComponentLink8URL: https://datasheet.ciiva.com/8929/dcrcwe3-8929566.pdf; ComponentLink8Description: https://datasheet.ciiva.com/8929/dcrcwe3-8929566.pdf; ComponentLink9URL: https://datasheet.ciiva.com/16392/dcrcwe3-16392334.pdf; ComponentLink9Description: https://datasheet.ciiva.com/16392/dcrcwe3-16392334.pdf; ComponentLink10URL: https://datasheet.ciiva.com/22683/1847332-22683326.pdf; ComponentLink10Description: https://datasheet.ciiva.com/22683/1847332-22683326.pdf
footprint RES0805
pins: 1, 2
text: 549K

## RES_0805_787
designator R?, comment RES_787  (value not drawn)
RES SMD 787 OHM 1% 1/8W 0805; Manufacturer: Yageo; Manufacturer Part Number: RC0805FR-07787RL; Resistance: 787R; Max Power Dissipation: 125mW; Temperature Coefficient: 100ppm/°C; Voltage Rating (DC): 150V; Supplier 1: Digi-Key; Stock 1: 69458; Pricing 1: 1=0.1, 10=0.022, 100=0.0088, 1000=0.004, 2500=0.0034 (USD); Case/Package: 0805; Case Code (Metric): 2012; Case Code (Imperial): 0805; Min Operating Temperature: -55°C; Max Operating Temperature: 155°C; Package Quantity: 1; Tolerance: 1%; Packaging: Tape and Reel; Composition: Thick Film; Number of Terminations: 2; Power Rating: 125mW; Voltage Rating: 150V; Termination: SMD/SMT; Military Standard: Not; Length: 0.079inch; Height: 0.024inch; Width: 0.049inch; Depth: 1.25mm; Lead Free: Lead Free; ComponentLink1URL: https://datasheet.ciiva.com/2457/pyu-r-int-thick-7-2457920.pdf; ComponentLink1Description: https://datasheet.ciiva.com/2457/pyu-r-int-thick-7-2457920.pdf; ComponentLink2URL: https://datasheet.ciiva.com/2457/pyu-r-int-thick-7-2457921.pdf; ComponentLink2Description: https://datasheet.ciiva.com/2457/pyu-r-int-thick-7-2457921.pdf; ComponentLink3URL: https://datasheet.ciiva.com/2457/pyu-r-int-thick-7-2457922.pdf; ComponentLink3Description: https://datasheet.ciiva.com/2457/pyu-r-int-thick-7-2457922.pdf; ComponentLink4URL: https://datasheet.ciiva.com/12656/rc0805-12656894.pdf; ComponentLink4Description: https://datasheet.ciiva.com/12656/rc0805-12656894.pdf; Supplier Part Number 1: 311-787CRCT-ND
footprint RES0805
pins: 1, 2
text: 787

## RES_0805_887K
designator R?, comment RES_887K  (value not drawn)
Thick Film Resistors - SMD 887K OHM 1%; Manufacturer: Yageo; Manufacturer Part Number: RC0805FR-07887KL; Voltage Rating (DC): 150V; Power Rating: 125mW; Resistance: 887KR; Temperature Coefficient: 100ppm/°C; Supplier 1: Digi-Key; Supplier Part Number 1: 311-887KCRCT-ND; Stock 1: 29855; Pricing 1: 1=0.1, 10=0.022, 100=0.0088, 1000=0.004, 2500=0.0034 (USD); Case/Package: 0805; Case Code (Imperial): 0805; Case Code (Metric): 2012; Contact Plating: Tin,Matte; Min Operating Temperature: -55°C; Max Operating Temperature: 155°C; Tolerance: 1%; Packaging: Tape and Reel; Voltage Rating: 150V; Termination: SMD/SMT; Composition: Thick Film; Military Standard: Not; Length: 2mm; Height: 0.5mm; Width: 1.25mm; Depth: 1.25mm; Radiation Hardening: No; Lead Free: Lead Free; ComponentLink1URL: http://components.arrow.com/part/dataview/0323_03541583; ComponentLink1Description: http://components.arrow.com/part/dataview/0323_03541583; ComponentLink2URL: http://www.yageo.ru/pdf/RC0805.pdf; ComponentLink2Description: http://www.yageo.ru/pdf/RC0805.pdf; ComponentLink3URL: http://www.yageo.com/documents/recent/PYu-RC_Group_51_RoHS_L_2.pdf; ComponentLink3Description: http://www.yageo.com/documents/recent/PYu-RC_Group_51_RoHS_L_2.pdf; ComponentLink4URL: http://www.yageo.com/documents/recent/PYu-RC0805_51_RoHS_L_5.pdf; ComponentLink4Description: http://www.yageo.com/documents/recent/PYu-RC0805_51_RoHS_L_5.pdf
footprint RES0805
pins: 1, 2
text: 887K

## RES_0805_JMP
designator R?  (value not drawn)
RES, THICK FILM, 0R, 0.125W, 0805; Manufacturer: Yageo; Manufacturer Part Number: RC0805JR-070RL; Resistance: 0mR; Tolerance: 5%; Voltage Rating: 150V; Power Rating: 125mW; Temperature Coefficient: 200ppm/°C; Supplier 1: Digi-Key; Supplier Part Number 1: 311-0.0ARCT-ND; Stock 1: 6469744; Pricing 1: 1=0.1, 10=0.018, 25=0.0128, 50=0.0096, 100=0.0071, 250=0.0054, 500=0.0044, 1000=0.0032 (USD); Case/Package: 0805; Number of Pins: 2; Case Code (Imperial): 0805; Case Code (Metric): 2012; Contact Plating: Tin,Matte; Min Operating Temperature: -55°C; Max Operating Temperature: 155°C; Packaging: Tape and Reel; Voltage Rating (DC): 150V; Termination: SMD/SMT; Composition: Thick Film; Military Standard: Not; Length: 2mm; Height: 0.5mm; Width: 1.25mm; Depth: 1.25mm; Radiation Hardening: No; REACH SVHC: Unknown; Lead Free: Lead Free; ComponentLink1URL: https://datasheet.ciiva.com/7941/1738694-7941861.pdf; ComponentLink1Description: https://datasheet.ciiva.com/7941/1738694-7941861.pdf; ComponentLink2URL: https://datasheet.ciiva.com/7941/1738694-7941862.pdf; ComponentLink2Description: https://datasheet.ciiva.com/7941/1738694-7941862.pdf; ComponentLink3URL: https://datasheet.ciiva.com/11819/0900766b8106beab-11819430.pdf; ComponentLink3Description: https://datasheet.ciiva.com/11819/0900766b8106beab-11819430.pdf; ComponentLink4URL: https://datasheet.ciiva.com/7941/1738694-7941863.pdf; ComponentLink4Description: https://datasheet.ciiva.com/7941/1738694-7941863.pdf; ComponentLink5URL: https://datasheet.ciiva.com/15190/getdatasheetpartid-330685-15190028.pdf; ComponentLink5Description: https://datasheet.ciiva.com/15190/getdatasheetpartid-330685-15190028.pdf
footprint RES0805
pins: 1, 2
text: 0

## RGB_LED
designator D?
WP154A4SUREQBFZGC; Manufacturer: Kingbright; Colour: Blue,Green,Red; Luminous Intensity: 900mcd; Lens Style: Dome,Clear; Forward Current: 20mA; Forward Voltage: 3.3V; Viewing Angle: 50°; Dominant Wavelength: 465nm; Supplier 1: Digi-Key; Manufacturer Part Number: WP154A4SUREQBFZGC; Stock 1: 8274; Pricing 1: 1=1.89, 10=1.534, 25=1.18, 100=1.062, 250=0.944, 500=0.8024, 1000=0.6608, 2500=0.6278, 5000=0.6136 (USD); Mount: Through Hole; Case/Package: Radial; Min Operating Temperature: -40°C; Max Operating Temperature: 85°C; Packaging: Bulk; Package Quantity: 500; Test Current: 20mA; Height: 8.6mm; Lead Free: Lead Free; ComponentLink1URL: https://datasheet.ciiva.com/6349/wp154a4sureqbfzgc-6349426.pdf; ComponentLink1Description: https://datasheet.ciiva.com/6349/wp154a4sureqbfzgc-6349426.pdf; ComponentLink2URL: https://datasheet.ciiva.com/13501/wp154a4sureqbfzgc-194997-13501708.pdf; ComponentLink2Description: https://datasheet.ciiva.com/13501/wp154a4sureqbfzgc-194997-13501708.pdf; Supplier Part Number 1: 754-1615-ND
footprint RGB_LED
pins: 1 R, 2 GND (power), 3 B, 4 G

## ROT_ENCODER
designator ROT?  (value not drawn)
Encoders 15mm SHAFT w/SWITCH; Manufacturer: Bourns; Manufacturer Part Number: PEC11R-4015F-S0024; Number of Channels: 2; Encoder Type: Mechanical; Pulses per Revolution: 24; Detent: No; Output Type: Quadrature,Incremental; Built in Switch: Yes; Hole Diameter: 1.8mm; Supplier 1: Digi-Key; Stock 1: 2755; Pricing 1: 1=1.68, 10=1.566, 25=1.4792, 50=1.305, 100=1.073, 250=1.044, 500=0.986, 1000=0.928, 5000=0.812 (USD); Mount: Through Hole,Panel,PCB; Number of Pins: 5; Min Operating Temperature: -30°C; Max Operating Temperature: 70°C; Packaging: Bulk; Package Quantity: 75; Termination: PC Pin; Orientation: Vertical; Length: 21.5mm; Height: 13.4mm; Width: 12.5mm; Radiation Hardening: No; REACH SVHC: No SVHC; ComponentLink1URL: https://datasheet.ciiva.com/29349/pec11r-29349519.pdf; ComponentLink1Description: https://datasheet.ciiva.com/29349/pec11r-29349519.pdf; Supplier Part Number 1: PEC11R-4015F-S0024-ND
footprint ROTENCFP
pins: 1 CHA, 2 GND, 3 CHB

## Servo_Header
designator SERVO?, comment 61300311121
Board-To-Board Connector, Vertical, WR-PHD Series, Through Hole, Header, 3 Contacts, 2.54 mm; Manufacturer: Wurth Electronics; Number of Positions: 3; Gender: Male; Connector Type: Male Pin; Pitch: 0.1inch; Supplier 1: Digi-Key; Supplier 2: Digi-Key; Supplier Part Number 1: 900-00008-ND; Supplier Part Number 2: 732-5316-ND; Manufacturer Part Number: 61300311121; Stock 2: 24543; Pricing 2: 1=0.13, 10=0.106, 25=0.088, 50=0.074, 100=0.067, 1000=0.061 (USD); Mount: Through Hole; Case/Package: 100; Contact Plating: Gold; Contact Material: Copper; Colour: Black; Number of Rows: 1; Packaging: Bulk; Termination: Solder; Number of Contacts: 3; Contact Mating Length: 0.236inch; REACH SVHC: Unknown; Lead Free: Lead Free; ComponentLink1URL: http://www.farnell.com/cad/1737268.pdf; ComponentLink1Description: http://www.farnell.com/cad/1737268.pdf
footprint SERVO_HEADER
pins: 1 PWM, 2 Vss, 3 GND

## SN74LVC1G17
designator U?
IC BUFFER SCHMIT TRIG SOT23-5; Manufacturer: Texas Instruments; Manufacturer Part Number: SN74LVC1G17DBVR; Logic Function: Schmitt Trigger,Buffer; Number of Channels: 1; Max Supply Voltage: 5.5V; Min Supply Voltage: 1.65V; Propagation Delay: 5ns; High Level Output Current: -32mA; Low Level Output Current: 32mA; Polarity: Non-Inverting; Quiescent Current: 1.5uA; Turn-On Delay Time: 11ns; Schmitt Trigger Input: Yes; Supplier 1: Digi-Key; Stock 1: 68193; Pricing 1: 1=0.43, 10=0.32, 100=0.1996, 500=0.1366, 1000=0.1051 (USD); Mount: Surface Mount; Case/Package: SOT-23; Number of Pins: 5; Contact Plating: Tin,Matte; Min Operating Temperature: -40°C; Max Operating Temperature: 125°C; Number of Inputs: 1; Number of Outputs: 1; Packaging: Tape and Reel; Package Quantity: 3000; Number of Elements: 1; Number of Bits per Element: 1; Number of Input Lines: 1; Number of Output Lines: 1; Termination: SMD/SMT; Number of Gates: 1; Number of Bits: 1; Length: 2.9mm; Height: 1.15mm; Width: 1.6mm; Radiation Hardening: No; REACH SVHC: No SVHC; Lead Free: Lead Free; ComponentLink1URL: https://datasheet.ciiva.com/34301/756684-34301476.pdf; ComponentLink1Description: https://datasheet.ciiva.com/34301/756684-34301476.pdf; ComponentLink2URL: https://datasheet.ciiva.com/1833/sn74lvc1g17-1833621.pdf; ComponentLink2Description: https://datasheet.ciiva.com/1833/sn74lvc1g17-1833621.pdf; ComponentLink3URL: https://datasheet.ciiva.com/7744/1811088-7744197.pdf; ComponentLink3Description: https://datasheet.ciiva.com/7744/1811088-7744197.pdf; ComponentLink4URL: https://datasheet.ciiva.com/28594/1772570-28594805.pdf; ComponentLink4Description: https://datasheet.ciiva.com/28594/1772570-28594805.pdf; ComponentLink5URL: https://datasheet.ciiva.com/1833/sn74lvc1g17-1833622.pdf; ComponentLink5Description: https://datasheet.ciiva.com/1833/sn74lvc1g17-1833622.pdf; ComponentLink6URL: https://datasheet.ciiva.com/1833/sn74lvc1g17-1833623.pdf; ComponentLink6Description: https://datasheet.ciiva.com/1833/sn74lvc1g17-1833623.pdf; ComponentLink7URL: https://datasheet.ciiva.com/15094/getdatasheetpartid-189714-15094971.pdf; ComponentLink7Description: https://datasheet.ciiva.com/15094/getdatasheetpartid-189714-15094971.pdf; ComponentLink8URL: https://datasheet.ciiva.com/48702/001073974-da-01-en-ic-buffer-s-sn74lvc1g17dbvr-sot-23-5-tid-48702678.pdf; ComponentLink8Description: https://datasheet.ciiva.com/48702/001073974-da-01-en-ic-buffer-s-sn74lvc1g17dbvr-sot-23-5-tid-48702678.pdf; Supplier Part Number 1: 296-11933-1-ND
footprint DBV0005A (SOT-23)
pins: 1 NC, 2 A, 3 GND, 4 Y, 5 Vcc

## SPU0410HR5H-PB
designator MIC?
MIC MEMS ANALOG OMNI -42DB; Manufacturer: Knowles; Shape: Rectangular; Impedance: 300R; Voltage Rating: 3.6V; Direction: Omnidirectional; Operating Supply Current: 250uA; Signal to Noise Ratio (SNR): 59dB; Supplier 1: Digi-Key; Supplier Part Number 1: 423-1138-1-ND; Manufacturer Part Number: SPU0410HR5H-PB; Stock 1: 176050; Pricing 1: 1=0.94, 10=0.806, 25=0.6476, 50=0.5756, 100=0.5036, 250=0.4892, 500=0.4748 (USD); Package Quantity: 1200; Packaging: Tape and Reel; Termination: SMD/SMT; Length: 3.76mm; Height: 1.2mm; Width: 2.95mm; Depth: 1.2mm; ComponentLink1URL: https://datasheet.ciiva.com/5300/spu0410hr5h-58393-5300133.pdf; ComponentLink1Description: https://datasheet.ciiva.com/5300/spu0410hr5h-58393-5300133.pdf; ComponentLink2URL: https://datasheet.ciiva.com/1/spu0410hr5h-pb-1958.pdf; ComponentLink2Description: https://datasheet.ciiva.com/1/spu0410hr5h-pb-1958.pdf; ComponentLink3URL: https://datasheet.ciiva.com/1/spu0410hr5h-pb-1959.pdf; ComponentLink3Description: https://datasheet.ciiva.com/1/spu0410hr5h-pb-1959.pdf
footprint MIC_FP
pins: 1 Vdd, 2 GND, 3 GND, 4 OUT

## TP
designator TP?  (value not drawn)
Testpoint_0805; Manufacturer: TE Connectivity; Manufacturer Part Number: 1625854-2; Resistance: 0mR; Supplier 1: Digi-Key; Stock 1: 27299; Pricing 1: 1=0.21, 10=0.2, 25=0.1708, 50=0.1496, 100=0.1389, 250=0.1229, 500=0.1175, 1000=0.0962 (USD); Mount: Surface Mount; Case/Package: 0805; Colour: Natural; Min Operating Temperature: -55°C; Max Operating Temperature: 125°C; Packaging: Tape and Reel; Package Quantity: 2000; Military Standard: Not; Length: 2mm; Depth: 1.2mm; Radiation Hardening: No; Lead Free: Lead Free; ComponentLink1URL: https://datasheet.ciiva.com/6439/eng-ds-1773266-a-6439169.pdf; ComponentLink1Description: https://datasheet.ciiva.com/6439/eng-ds-1773266-a-6439169.pdf; ComponentLink2URL: https://datasheet.ciiva.com/30238/1773266-a-30238966.pdf; ComponentLink2Description: https://datasheet.ciiva.com/30238/1773266-a-30238966.pdf; ComponentLink3URL: https://datasheet.ciiva.com/8914/eng-ds-1773266-a-8914649.pdf; ComponentLink3Description: https://datasheet.ciiva.com/8914/eng-ds-1773266-a-8914649.pdf; Supplier Part Number 1: A106144CT-ND
footprint TestPoint_0805
pins: 1

## TPS3779BDBVR
designator U?
Voltage Detector, Active-Low, Push-Pull Reset, 2-Monitors, 1.5V-6.5Vin, SOT-23-6; Manufacturer: Texas Instruments; Manufacturer Part Number: TPS3779BDBVT; Number of Voltages Monitored: 2; Reset: Active Low; Threshold Voltage: 1.194V; Min Supply Voltage: 1.5V; Max Supply Voltage: 6.5V; Quiescent Current: 2uA; Supplier 1: Digi-Key; Supplier Part Number 1: 296-42165-1-ND; Stock 1: 495; Pricing 1: 1=1.82, 10=1.632, 100=1.312 (USD); Case/Package: SOT-23-6; Number of Pins: 6; Min Operating Temperature: -40°C; Max Operating Temperature: 125°C; Packaging: Tape and Reel; REACH SVHC: No SVHC; Lead Free: Lead Free; ComponentLink1URL: http://www.ti.com/general/docs/lit/getliterature.tsp?genericPartNumber=TPS3779&&fileType=pdf; ComponentLink1Description: http://www.ti.com/general/docs/lit/getliterature.tsp?genericPartNumber=TPS3779&&fileType=pdf
footprint DBV (R-PDSO-G6) (6 pin dbv)
pins: 1 VDD, 2 OUT1, 3 OUT2, 4 SENSE2, 5 GND, 6 SENSE1